# EAGLE library part 6581-SID (library crasbe)
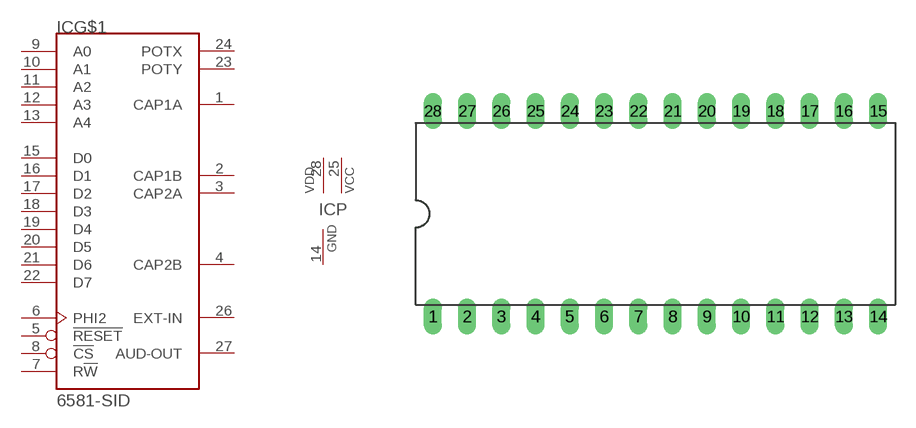
[diagram p49: symbol with the pads of DIL28; footprint DIL28]

Designator prefix IC; gates G$1=6581 P=VCC1VDD1GND1

## 6581-SID  [DIL28]
1  G$1:CAP1A
2  G$1:CAP1B
3  G$1:CAP2A
4  G$1:CAP2B
5  G$1:!RESET  in
6  G$1:PHI2  in
7  G$1:R!W  in
8  G$1:!CS  in
9  G$1:A0  in
10  G$1:A1  in
11  G$1:A2  in
12  G$1:A3  in
13  G$1:A4  in
14  P:GND  pwr
15  G$1:D0
16  G$1:D1
17  G$1:D2
18  G$1:D3
19  G$1:D4
20  G$1:D5
21  G$1:D6
22  G$1:D7
23  G$1:POTY
24  G$1:POTX
25  P:VCC  pwr
26  G$1:EXT-IN  in
27  G$1:AUD-OUT  out
28  P:VDD  pwr

## Footprint DIL28 (pad centres in mm)
drill 0.813 long: 1 -16.51,-7.62; 2 -13.97,-7.62; 3 -11.43,-7.62; 4 -8.89,-7.62; 5 -6.35,-7.62; 6 -3.81,-7.62; 7 -1.27,-7.62; 8 1.27,-7.62; 9 3.81,-7.62; 10 6.35,-7.62; 11 8.89,-7.62; 12 11.43,-7.62; 13 13.97,-7.62; 14 16.51,-7.62; 15 16.51,7.62; 16 13.97,7.62; 17 11.43,7.62; 18 8.89,7.62; 19 6.35,7.62; 20 3.81,7.62; 21 1.27,7.62; 22 -1.27,7.62; 23 -3.81,7.62; 24 -6.35,7.62; 25 -8.89,7.62; 26 -11.43,7.62; 27 -13.97,7.62; 28 -16.51,7.62